# Altium schematic symbol library inductors_transformers.schlib: 22 symbols
Pins are listed as number, name and electrical type; pins without a type are passive.

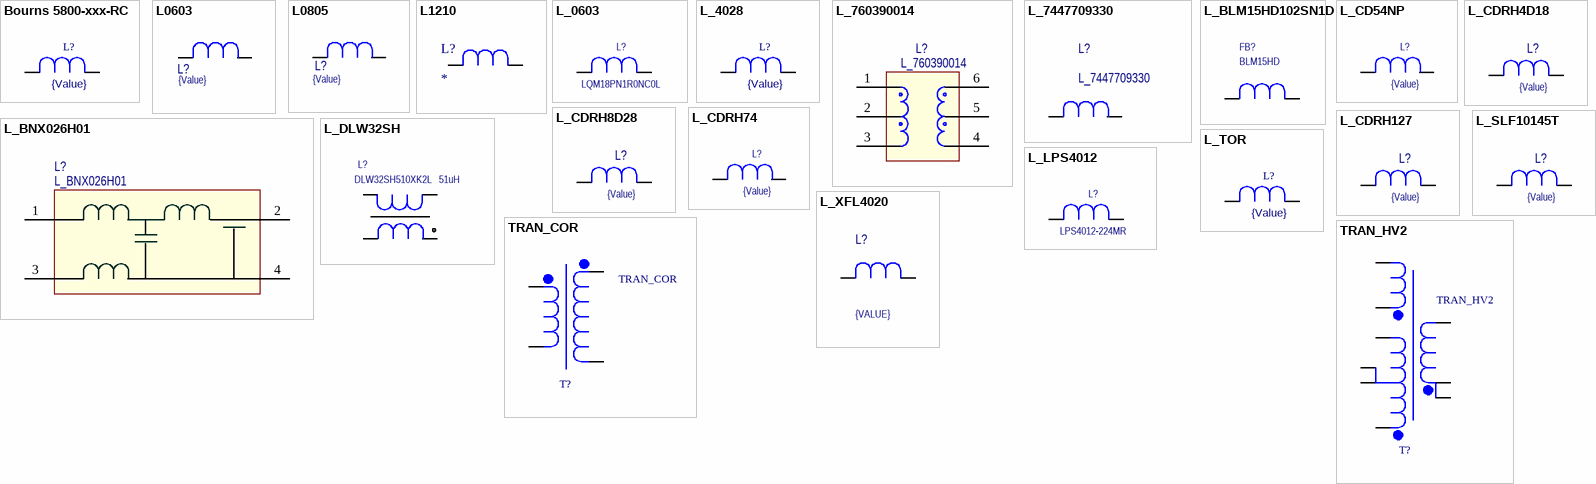
[diagram p0: symbols Bourns 5800-xxx-RC to TRAN_HV2]

## Bourns 5800-xxx-RC
designator L?, comment {Value}
Inductor; Value: {Value}
footprint Bourns 5800-xxx-RC (Inductor)
pins: 1, 2

## L0603
designator L?, comment {Value}
Inductor; Value: {Value}
footprint L_0603 (Inductor Pattern)
pins: 1, 2

## L0805
designator L?, comment {Value}
Inductor; Value: {Value}
footprint L_0805 (Inductor Pattern)
pins: 1, 2

## L1210
designator L?
Inductor
footprint L_1210 (Chip Inductor, 2-Leads, Body 3,1x2,5mm, IPC Medium Density)
pins: 1, 2

## L_0603
designator L?, comment LQM18PN1R0NC0L
Inductor; Value: LQM18PN1R0NC0L
footprint L_0603 (Inductor Pattern)
pins: 1, 2

## L_4028
designator L?, comment {Value}
Inductor; Value: {Value}
footprint L4028
pins: 1, 2

## L_760390014
designator L?
Transformer  Push-Pull
footprint 760390014 (Inductor)
pins: 1, 2, 3, 4, 5, 6

## L_7447709330
designator L?
Inductor
footprint 7447709330 (inductor)
pins: 1, 2

## L_BLM15HD102SN1D
designator FB?, comment BLM15HD
FERRITE BEAD MURATA BLM15HD 0402 1000R@100 MHZ
footprint FB 0402 (FERRITE BEAD MURATA BLM15HD 0402 1000R@100 MHZ)
pins: 1, 2

## L_BNX026H01
designator L?
EMI Suppression Filters
footprint BNX02*H Series L (EMI Suppression Filters)
footprint BNX02*H Series M (EMI Suppression Filters)
pins: 1, 2, 3, 4

## L_CD54NP
designator L?, comment {Value}
Inductor; Value: {Value}
footprint CD54NP (inductor)
pins: 1, 2

## L_CDRH4D18
designator L?, comment {Value}
Inductor; Value: {Value}
footprint CDRH4D18
pins: 1, 2

## L_CDRH8D28
designator L?, comment {Value}
Inductor; Value: {Value}
footprint CDRH8D28 (Inductor)
pins: 1, 2

## L_CDRH74
designator L?, comment {Value}
Inductor; Value: {Value}
footprint CDRH74
pins: 1, 2

## L_CDRH127
designator L?, comment {Value}
Inductor; Value: {Value}
footprint CDRH127
pins: 1, 2

## L_DLW32SH
designator L?, comment DLW32SH510XK2L   51uH
Inductor
footprint Murata Transformer
pins: 1, 2, 3, 4

## L_LPS4012
designator L?, comment LPS4012-224MR
Inductor; Value: LPS4012-224MR
footprint LPS4012
pins: 1, 2

## L_SLF10145T
designator L?, comment {Value}
Inductor; Value: {Value}
footprint SLF10145T TDK (Inductor)
pins: 1, 2

## L_TOR
designator L?, comment {Value}
Inductor; Value: {Value}
footprint L_TOR
pins: 1, 2

## L_XFL4020
designator L?, comment {VALUE}
footprint XFL4020 (XFL4020 INDUCTOR)
pins: 1, 2

## TRAN_COR
designator T?
Value: {Value}
footprint TRAN_COR
pins: A1, A2, A3, A4

## TRAN_HV2
designator T?
Value: {Value}
footprint TRAN_HV2
pins: 1, 2, 3, 4, 5, 6, 7, 8, 9